# Altium schematic symbol library TE Connectivity.SchLib: 3 symbols
Pins are listed as number, name and electrical type; pins without a type are passive.

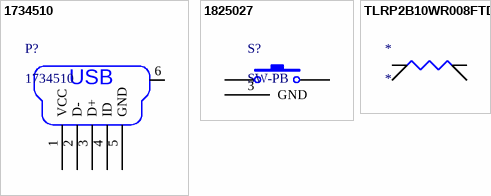
[diagram p0: symbols 1734510 to TLRP2B10WR008FTD]

## 1734510
designator P?
pins: 1 VCC, 2 D-, 3 D+, 4 ID, 5 GND, 6 CHA
text: USB

## 1825027
designator S?, comment SW-PB
pins: 1, 2, 3 GND hidden to GND, 3 GND

## TLRP2B10WR008FTD
designator *
pins: 1 I1, 2 I2, 3 S2, 4 S1